# EAGLE library part ICL7667CPA (library Intersil_By_element14_Batch_1)
Dual Power MOSFET Driver
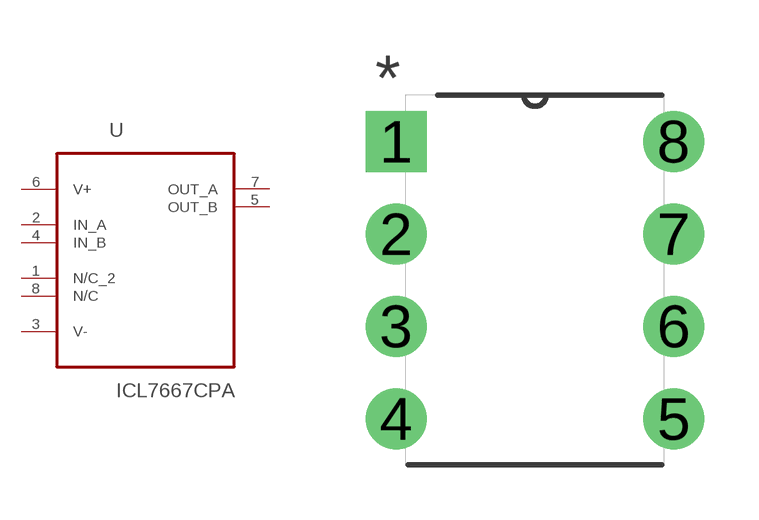
[diagram p198: symbol with the pads of DIP254P762X533-8; footprint DIP254P762X533-8]

Designator prefix U

## ICL7667CPA (MPN: ICL7667CPA; OC_FARNELL: -; OC_NEWARK: 06F7470; PACKAGE: PDIP-8; SUPPLIER: INTERSIL)  [DIP254P762X533-8]
1  N/C_2  nc
2  IN_A  in
3  V-  pwr
4  IN_B  in
5  OUT_B  out
6  V+  pwr
7  OUT_A  out
8  N/C  nc

## Footprint DIP254P762X533-8 (pad centres in mm)
drill 1.118 square: 1 -7.62,7.62
drill 1.118: 2 -7.62,5.08; 3 -7.62,2.54; 4 -7.62,0; 5 0,0; 6 0,2.54; 7 0,5.08; 8 0,7.62